# Altium schematic symbol library WCAP-AT1H.SchLib: 96 symbols (part 2 of 2)
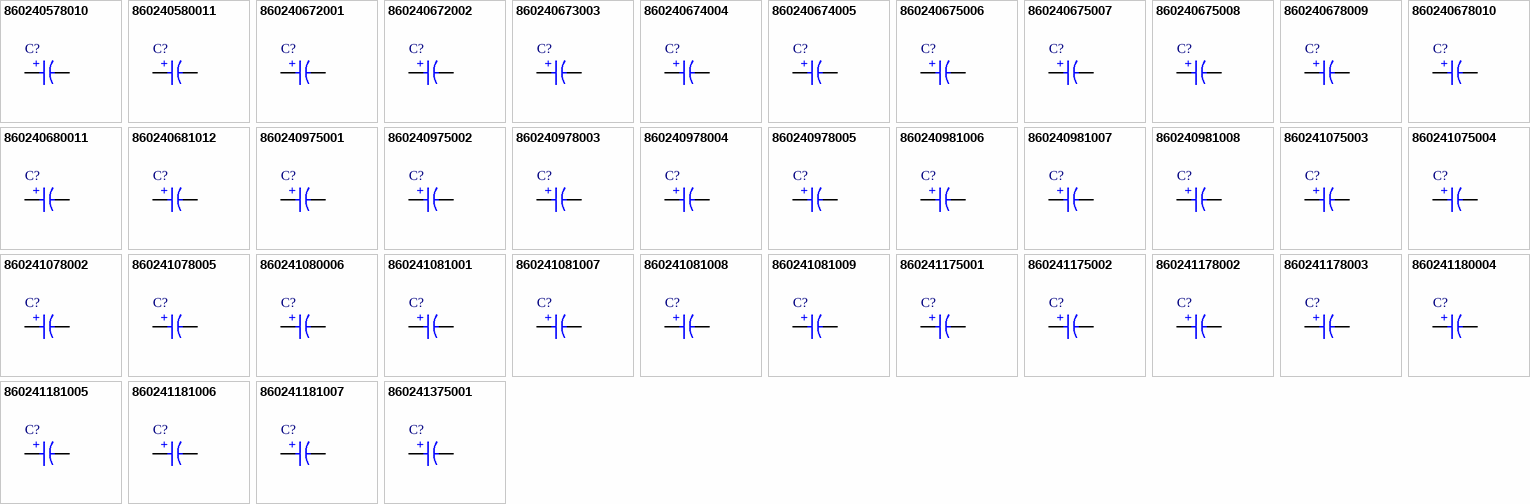
[diagram p3: symbols 860240578010 to 860241375001]

## 860240975001
designator C?, comment 10µF  (value not drawn)
WCAP-AT1H Aluminum Electrolytic Capacitor, Radial, D10 x H16mm, 10µF, 160V (DC); Manufacturer Part Number: 860240975001; Manufacturer: Wurth Elektronik; Leakage Current: 164µA; Dissipation Factor: 15%; Endurance: 10000h; Ripple Current: 280mA; Category: Aluminum Electrolytic Capacitors; Match Code: WCAP-AT1H; ComponentLink1Description: Website Link; ComponentLink1URL: https://www.we-online.com/redexpert/article/860240975001?ad; ComponentLink2Description: Datasheet Link; ComponentLink2URL: https://www.we-online.com/redexpert/spec/860240975001?ad; Mount: Through Hole; Min Operating Temperature: -40°C; Max Operating Temperature: 105°C; Packaging: Ammo Pack; Case/Size Code: D10 x H16mm; Height: 16mm; Diameter: 10mm; Capacitance: 10µF; Rated Voltage: 160V (DC)
footprint WCAP-AT1H_D10H16
simulation model 860240975001_10uF
pins: 1 P, 2 N
text: +

## 860240975002
designator C?, comment 22µF  (value not drawn)
WCAP-AT1H Aluminum Electrolytic Capacitor, Radial, D10 x H20mm, 22µF, 160V (DC); Manufacturer Part Number: 860240975002; Manufacturer: Wurth Elektronik; Leakage Current: 240.8µA; Dissipation Factor: 15%; Endurance: 10000h; Ripple Current: 450mA; Category: Aluminum Electrolytic Capacitors; Match Code: WCAP-AT1H; ComponentLink1Description: Website Link; ComponentLink1URL: https://www.we-online.com/redexpert/article/860240975002?ad; ComponentLink2Description: Datasheet Link; ComponentLink2URL: https://www.we-online.com/redexpert/spec/860240975002?ad; Mount: Through Hole; Min Operating Temperature: -40°C; Max Operating Temperature: 105°C; Packaging: Ammo Pack; Case/Size Code: D10 x H20mm; Height: 20mm; Diameter: 10mm; Capacitance: 22µF; Rated Voltage: 160V (DC)
footprint WCAP-AT1H_D10H20
simulation model 860240975002_22uF
pins: 1 P, 2 N
text: +

## 860240978003
designator C?, comment 33µF  (value not drawn)
WCAP-AT1H Aluminum Electrolytic Capacitor, Radial, D13 x H20mm, 33µF, 160V (DC); Manufacturer Part Number: 860240978003; Manufacturer: Wurth Elektronik; Leakage Current: 311.2µA; Dissipation Factor: 15%; Endurance: 10000h; Ripple Current: 610mA; Category: Aluminum Electrolytic Capacitors; Match Code: WCAP-AT1H; ComponentLink1Description: Website Link; ComponentLink1URL: https://www.we-online.com/redexpert/article/860240978003?ad; ComponentLink2Description: Datasheet Link; ComponentLink2URL: https://www.we-online.com/redexpert/spec/860240978003?ad; Mount: Through Hole; Min Operating Temperature: -40°C; Max Operating Temperature: 105°C; Packaging: Ammo Pack; Case/Size Code: D13 x H20mm; Height: 20mm; Diameter: 13mm; Capacitance: 33µF; Rated Voltage: 160V (DC)
footprint WCAP-AT1H_D13H20
simulation model 860240978003_33uF
pins: 1 P, 2 N
text: +

## 860240978004
designator C?, comment 47µF  (value not drawn)
WCAP-AT1H Aluminum Electrolytic Capacitor, Radial, D13 x H20mm, 47µF, 160V (DC); Manufacturer Part Number: 860240978004; Manufacturer: Wurth Elektronik; Leakage Current: 400.8µA; Dissipation Factor: 15%; Endurance: 10000h; Ripple Current: 680mA; Category: Aluminum Electrolytic Capacitors; Match Code: WCAP-AT1H; ComponentLink1Description: Website Link; ComponentLink1URL: https://www.we-online.com/redexpert/article/860240978004?ad; ComponentLink2Description: Datasheet Link; ComponentLink2URL: https://www.we-online.com/redexpert/spec/860240978004?ad; Mount: Through Hole; Min Operating Temperature: -40°C; Max Operating Temperature: 105°C; Packaging: Ammo Pack; Case/Size Code: D13 x H20mm; Height: 20mm; Diameter: 13mm; Capacitance: 47µF; Rated Voltage: 160V (DC)
footprint WCAP-AT1H_D13H20
simulation model 860240978004_47uF
pins: 1 P, 2 N
text: +

## 860240978005
designator C?, comment 68µF  (value not drawn)
WCAP-AT1H Aluminum Electrolytic Capacitor, Radial, D13 x H25mm, 68µF, 160V (DC); Manufacturer Part Number: 860240978005; Manufacturer: Wurth Elektronik; Leakage Current: 535.2µA; Dissipation Factor: 15%; Endurance: 10000h; Ripple Current: 1100mA; Category: Aluminum Electrolytic Capacitors; Match Code: WCAP-AT1H; ComponentLink1Description: Website Link; ComponentLink1URL: https://www.we-online.com/redexpert/article/860240978005?ad; ComponentLink2Description: Datasheet Link; ComponentLink2URL: https://www.we-online.com/redexpert/spec/860240978005?ad; Mount: Through Hole; Min Operating Temperature: -40°C; Max Operating Temperature: 105°C; Packaging: Ammo Pack; Case/Size Code: D13 x H25mm; Height: 25mm; Diameter: 13mm; Capacitance: 68µF; Rated Voltage: 160V (DC)
footprint WCAP-AT1H_D13H25
simulation model 860240978005_68uF
pins: 1 P, 2 N
text: +

## 860240981006
designator C?, comment 100µF  (value not drawn)
WCAP-AT1H Aluminum Electrolytic Capacitor, Radial, D18 x H21mm, 100µF, 160V (DC); Manufacturer Part Number: 860240981006; Manufacturer: Wurth Elektronik; Leakage Current: 740µA; Dissipation Factor: 15%; Endurance: 10000h; Ripple Current: 1310mA; Category: Aluminum Electrolytic Capacitors; Match Code: WCAP-AT1H; ComponentLink1Description: Website Link; ComponentLink1URL: https://www.we-online.com/redexpert/article/860240981006?ad; ComponentLink2Description: Datasheet Link; ComponentLink2URL: https://www.we-online.com/redexpert/spec/860240981006?ad; Mount: Through Hole; Min Operating Temperature: -40°C; Max Operating Temperature: 105°C; Packaging: Ammo Pack; Case/Size Code: D18 x H21mm; Height: 21mm; Diameter: 18mm; Capacitance: 100µF; Rated Voltage: 160V (DC)
footprint WCAP-AT1H_D18H21
simulation model 860240981006_100uF
pins: 1 P, 2 N
text: +

## 860240981007
designator C?, comment 150µF  (value not drawn)
WCAP-AT1H Aluminum Electrolytic Capacitor, Radial, D18 x H25mm, 150µF, 160V (DC); Manufacturer Part Number: 860240981007; Manufacturer: Wurth Elektronik; Leakage Current: 1060µA; Dissipation Factor: 15%; Endurance: 10000h; Ripple Current: 1780mA; Category: Aluminum Electrolytic Capacitors; Match Code: WCAP-AT1H; ComponentLink1Description: Website Link; ComponentLink1URL: https://www.we-online.com/redexpert/article/860240981007?ad; ComponentLink2Description: Datasheet Link; ComponentLink2URL: https://www.we-online.com/redexpert/spec/860240981007?ad; Mount: Through Hole; Min Operating Temperature: -40°C; Max Operating Temperature: 105°C; Packaging: Ammo Pack; Case/Size Code: D18 x H25mm; Height: 25mm; Diameter: 18mm; Capacitance: 150µF; Rated Voltage: 160V (DC)
footprint WCAP-AT1H_D18H25
simulation model 860240981007_150uF
pins: 1 P, 2 N
text: +

## 860240981008
designator C?, comment 220µF  (value not drawn)
WCAP-AT1H Aluminum Electrolytic Capacitor, Radial, D18 x H25mm, 220µF, 160V (DC); Manufacturer Part Number: 860240981008; Manufacturer: Wurth Elektronik; Leakage Current: 1508µA; Dissipation Factor: 15%; Endurance: 10000h; Ripple Current: 2290mA; Category: Aluminum Electrolytic Capacitors; Match Code: WCAP-AT1H; ComponentLink1Description: Website Link; ComponentLink1URL: https://www.we-online.com/redexpert/article/860240981008?ad; ComponentLink2Description: Datasheet Link; ComponentLink2URL: https://www.we-online.com/redexpert/spec/860240981008?ad; Mount: Through Hole; Min Operating Temperature: -40°C; Max Operating Temperature: 105°C; Packaging: Ammo Pack; Case/Size Code: D18 x H25mm; Height: 25mm; Diameter: 18mm; Capacitance: 220µF; Rated Voltage: 160V (DC)
footprint WCAP-AT1H_D18H25
simulation model 860240981008_220uF
pins: 1 P, 2 N
text: +

## 860241075003
designator C?, comment 10µF  (value not drawn)
WCAP-AT1H Aluminum Electrolytic Capacitor, Radial, D10 x H20mm, 10µF, 200V (DC); Manufacturer Part Number: 860241075003; Manufacturer: Wurth Elektronik; Leakage Current: 180µA; Dissipation Factor: 15%; Endurance: 10000h; Ripple Current: 310mA; Category: Aluminum Electrolytic Capacitors; Match Code: WCAP-AT1H; ComponentLink1Description: Website Link; ComponentLink1URL: https://www.we-online.com/redexpert/article/860241075003?ad; ComponentLink2Description: Datasheet Link; ComponentLink2URL: https://www.we-online.com/redexpert/spec/860241075003?ad; Mount: Through Hole; Min Operating Temperature: -40°C; Max Operating Temperature: 105°C; Packaging: Ammo Pack; Case/Size Code: D10 x H20mm; Height: 20mm; Diameter: 10mm; Capacitance: 10µF; Rated Voltage: 200V (DC)
footprint WCAP-AT1H_D10H20
simulation model 860241075003_10uF
pins: 1 P, 2 N
text: +

## 860241075004
designator C?, comment 22µF  (value not drawn)
WCAP-AT1H Aluminum Electrolytic Capacitor, Radial, D10 x H20mm, 22µF, 200V (DC); Manufacturer Part Number: 860241075004; Manufacturer: Wurth Elektronik; Leakage Current: 276µA; Dissipation Factor: 15%; Endurance: 10000h; Ripple Current: 470mA; Category: Aluminum Electrolytic Capacitors; Match Code: WCAP-AT1H; ComponentLink1Description: Website Link; ComponentLink1URL: https://www.we-online.com/redexpert/article/860241075004?ad; ComponentLink2Description: Datasheet Link; ComponentLink2URL: https://www.we-online.com/redexpert/spec/860241075004?ad; Mount: Through Hole; Min Operating Temperature: -40°C; Max Operating Temperature: 105°C; Packaging: Ammo Pack; Case/Size Code: D10 x H20mm; Height: 20mm; Diameter: 10mm; Capacitance: 22µF; Rated Voltage: 200V (DC)
footprint WCAP-AT1H_D10H20
simulation model 860241075004_22uF
pins: 1 P, 2 N
text: +

## 860241078002
designator C?, comment 47µF  (value not drawn)
WCAP-AT1H Aluminum Electrolytic Capacitor, Radial, D13 x H20mm, 47µF, 200V (DC); Manufacturer Part Number: 860241078002; Manufacturer: Wurth Elektronik; Leakage Current: 476µA; Dissipation Factor: 15%; Endurance: 10000h; Ripple Current: 980mA; Category: Aluminum Electrolytic Capacitors; Match Code: WCAP-AT1H; ComponentLink1Description: Website Link; ComponentLink1URL: https://www.we-online.com/redexpert/article/860241078002?ad; ComponentLink2Description: Datasheet Link; ComponentLink2URL: https://www.we-online.com/redexpert/spec/860241078002?ad; Mount: Through Hole; Min Operating Temperature: -40°C; Max Operating Temperature: 105°C; Packaging: Ammo Pack; Case/Size Code: D13 x H20mm; Height: 20mm; Diameter: 13mm; Capacitance: 47µF; Rated Voltage: 200V (DC)
footprint WCAP-AT1H_D13H20
simulation model 860241078002_47uF
pins: 1 P, 2 N
text: +

## 860241078005
designator C?, comment 33µF  (value not drawn)
WCAP-AT1H Aluminum Electrolytic Capacitor, Radial, D13 x H20mm, 33µF, 200V (DC); Manufacturer Part Number: 860241078005; Manufacturer: Wurth Elektronik; Leakage Current: 364µA; Dissipation Factor: 15%; Endurance: 10000h; Ripple Current: 620mA; Category: Aluminum Electrolytic Capacitors; Match Code: WCAP-AT1H; ComponentLink1Description: Website Link; ComponentLink1URL: https://www.we-online.com/redexpert/article/860241078005?ad; ComponentLink2Description: Datasheet Link; ComponentLink2URL: https://www.we-online.com/redexpert/spec/860241078005?ad; Mount: Through Hole; Min Operating Temperature: -40°C; Max Operating Temperature: 105°C; Packaging: Ammo Pack; Case/Size Code: D13 x H20mm; Height: 20mm; Diameter: 13mm; Capacitance: 33µF; Rated Voltage: 200V (DC)
footprint WCAP-AT1H_D13H20
simulation model 860241078005_33uF
pins: 1 P, 2 N
text: +

## 860241080006
designator C?, comment 68µF  (value not drawn)
WCAP-AT1H Aluminum Electrolytic Capacitor, Radial, D16 x H25mm, 68µF, 200V (DC); Manufacturer Part Number: 860241080006; Manufacturer: Wurth Elektronik; Leakage Current: 644µA; Dissipation Factor: 15%; Endurance: 10000h; Ripple Current: 1190mA; Category: Aluminum Electrolytic Capacitors; Match Code: WCAP-AT1H; ComponentLink1Description: Website Link; ComponentLink1URL: https://www.we-online.com/redexpert/article/860241080006?ad; ComponentLink2Description: Datasheet Link; ComponentLink2URL: https://www.we-online.com/redexpert/spec/860241080006?ad; Mount: Through Hole; Min Operating Temperature: -40°C; Max Operating Temperature: 105°C; Packaging: Ammo Pack; Case/Size Code: D16 x H25mm; Height: 25mm; Diameter: 16mm; Capacitance: 68µF; Rated Voltage: 200V (DC)
footprint WCAP-AT1H_D16H25
simulation model 860241080006_68uF
pins: 1 P, 2 N
text: +

## 860241081001
designator C?, comment 330µF  (value not drawn)
WCAP-AT1H Aluminum Electrolytic Capacitor, Radial, D18 x H35.5mm, 330µF, 200V (DC); Manufacturer Part Number: 860241081001; Manufacturer: Wurth Elektronik; Leakage Current: 2740µA; Dissipation Factor: 15%; Endurance: 10000h; Ripple Current: 3220mA; Category: Aluminum Electrolytic Capacitors; Match Code: WCAP-AT1H; ComponentLink1Description: Website Link; ComponentLink1URL: https://www.we-online.com/redexpert/article/860241081001?ad; ComponentLink2Description: Datasheet Link; ComponentLink2URL: https://www.we-online.com/redexpert/spec/860241081001?ad; Mount: Through Hole; Min Operating Temperature: -40°C; Max Operating Temperature: 105°C; Packaging: Ammo Pack; Case/Size Code: D18 x H35.5mm; Height: 35.5mm; Diameter: 18mm; Capacitance: 330µF; Rated Voltage: 200V (DC)
footprint WCAP-AT1H_D18H35.5
simulation model 860241081001_330uF
pins: 1 P, 2 N
text: +

## 860241081007
designator C?, comment 100µF  (value not drawn)
WCAP-AT1H Aluminum Electrolytic Capacitor, Radial, D18 x H21mm, 100µF, 200V (DC); Manufacturer Part Number: 860241081007; Manufacturer: Wurth Elektronik; Leakage Current: 900µA; Dissipation Factor: 15%; Endurance: 10000h; Ripple Current: 1380mA; Category: Aluminum Electrolytic Capacitors; Match Code: WCAP-AT1H; ComponentLink1Description: Website Link; ComponentLink1URL: https://www.we-online.com/redexpert/article/860241081007?ad; ComponentLink2Description: Datasheet Link; ComponentLink2URL: https://www.we-online.com/redexpert/spec/860241081007?ad; Mount: Through Hole; Min Operating Temperature: -40°C; Max Operating Temperature: 105°C; Packaging: Ammo Pack; Case/Size Code: D18 x H21mm; Height: 21mm; Diameter: 18mm; Capacitance: 100µF; Rated Voltage: 200V (DC)
footprint WCAP-AT1H_D18H21
simulation model 860241081007_100uF
pins: 1 P, 2 N
text: +

## 860241081008
designator C?, comment 150µF  (value not drawn)
WCAP-AT1H Aluminum Electrolytic Capacitor, Radial, D18 x H25mm, 150µF, 200V (DC); Manufacturer Part Number: 860241081008; Manufacturer: Wurth Elektronik; Leakage Current: 1300µA; Dissipation Factor: 15%; Endurance: 10000h; Ripple Current: 1800mA; Category: Aluminum Electrolytic Capacitors; Match Code: WCAP-AT1H; ComponentLink1Description: Website Link; ComponentLink1URL: https://www.we-online.com/redexpert/article/860241081008?ad; ComponentLink2Description: Datasheet Link; ComponentLink2URL: https://www.we-online.com/redexpert/spec/860241081008?ad; Mount: Through Hole; Min Operating Temperature: -40°C; Max Operating Temperature: 105°C; Packaging: Ammo Pack; Case/Size Code: D18 x H25mm; Height: 25mm; Diameter: 18mm; Capacitance: 150µF; Rated Voltage: 200V (DC)
footprint WCAP-AT1H_D18H25
simulation model 860241081008_150uF
pins: 1 P, 2 N
text: +

## 860241081009
designator C?, comment 220µF  (value not drawn)
WCAP-AT1H Aluminum Electrolytic Capacitor, Radial, D18 x H31.5mm, 220µF, 200V (DC); Manufacturer Part Number: 860241081009; Manufacturer: Wurth Elektronik; Leakage Current: 1860µA; Dissipation Factor: 15%; Endurance: 10000h; Ripple Current: 2350mA; Category: Aluminum Electrolytic Capacitors; Match Code: WCAP-AT1H; ComponentLink1Description: Website Link; ComponentLink1URL: https://www.we-online.com/redexpert/article/860241081009?ad; ComponentLink2Description: Datasheet Link; ComponentLink2URL: https://www.we-online.com/redexpert/spec/860241081009?ad; Mount: Through Hole; Min Operating Temperature: -40°C; Max Operating Temperature: 105°C; Packaging: Ammo Pack; Case/Size Code: D18 x H31.5mm; Height: 31.5mm; Diameter: 18mm; Capacitance: 220µF; Rated Voltage: 200V (DC)
footprint WCAP-AT1H_D18H31.5
simulation model 860241081009_220uF
pins: 1 P, 2 N
text: +

## 860241175001
designator C?, comment 10µF  (value not drawn)
WCAP-AT1H Aluminum Electrolytic Capacitor, Radial, D10 x H20mm, 10µF, 250V (DC); Manufacturer Part Number: 860241175001; Manufacturer: Wurth Elektronik; Leakage Current: 200µA; Dissipation Factor: 15%; Endurance: 10000h; Ripple Current: 320mA; Category: Aluminum Electrolytic Capacitors; Match Code: WCAP-AT1H; ComponentLink1Description: Website Link; ComponentLink1URL: https://www.we-online.com/redexpert/article/860241175001?ad; ComponentLink2Description: Datasheet Link; ComponentLink2URL: https://www.we-online.com/redexpert/spec/860241175001?ad; Mount: Through Hole; Min Operating Temperature: -40°C; Max Operating Temperature: 105°C; Packaging: Ammo Pack; Case/Size Code: D10 x H20mm; Height: 20mm; Diameter: 10mm; Capacitance: 10µF; Rated Voltage: 250V (DC)
footprint WCAP-AT1H_D10H20
simulation model 860241175001_10uF
pins: 1 P, 2 N
text: +

## 860241175002
designator C?, comment 22µF  (value not drawn)
WCAP-AT1H Aluminum Electrolytic Capacitor, Radial, D10 x H20mm, 22µF, 250V (DC); Manufacturer Part Number: 860241175002; Manufacturer: Wurth Elektronik; Leakage Current: 320µA; Dissipation Factor: 15%; Endurance: 10000h; Ripple Current: 420mA; Category: Aluminum Electrolytic Capacitors; Match Code: WCAP-AT1H; ComponentLink1Description: Website Link; ComponentLink1URL: https://www.we-online.com/redexpert/article/860241175002?ad; ComponentLink2Description: Datasheet Link; ComponentLink2URL: https://www.we-online.com/redexpert/spec/860241175002?ad; Mount: Through Hole; Min Operating Temperature: -40°C; Max Operating Temperature: 105°C; Packaging: Ammo Pack; Case/Size Code: D10 x H20mm; Height: 20mm; Diameter: 10mm; Capacitance: 22µF; Rated Voltage: 250V (DC)
footprint WCAP-AT1H_D10H20
simulation model 860241175002_22uF
pins: 1 P, 2 N
text: +

## 860241178002
designator C?, comment 22µF  (value not drawn)
WCAP-AT1H Aluminum Electrolytic Capacitor, Radial, D13 x H20mm, 22µF, 250V (DC); Manufacturer Part Number: 860241178002; Manufacturer: Wurth Elektronik; Leakage Current: 320µA; Dissipation Factor: 15%; Endurance: 10000h; Ripple Current: 490mA; Category: Aluminum Electrolytic Capacitors; Match Code: WCAP-AT1H; ComponentLink1Description: Website Link; ComponentLink1URL: https://www.we-online.com/redexpert/article/860241178002?ad; ComponentLink2Description: Datasheet Link; ComponentLink2URL: https://www.we-online.com/redexpert/spec/860241178002?ad; Mount: Through Hole; Min Operating Temperature: -40°C; Max Operating Temperature: 105°C; Packaging: Ammo Pack; Case/Size Code: D13 x H20mm; Height: 20mm; Diameter: 13mm; Capacitance: 22µF; Rated Voltage: 250V (DC)
footprint WCAP-AT1H_D13H20
simulation model 860241178002_22uF
pins: 1 P, 2 N
text: +

## 860241178003
designator C?, comment 33µF  (value not drawn)
WCAP-AT1H Aluminum Electrolytic Capacitor, Radial, D13 x H25mm, 33µF, 250V (DC); Manufacturer Part Number: 860241178003; Manufacturer: Wurth Elektronik; Leakage Current: 430µA; Dissipation Factor: 15%; Endurance: 10000h; Ripple Current: 750mA; Category: Aluminum Electrolytic Capacitors; Match Code: WCAP-AT1H; ComponentLink1Description: Website Link; ComponentLink1URL: https://www.we-online.com/redexpert/article/860241178003?ad; ComponentLink2Description: Datasheet Link; ComponentLink2URL: https://www.we-online.com/redexpert/spec/860241178003?ad; Mount: Through Hole; Min Operating Temperature: -40°C; Max Operating Temperature: 105°C; Packaging: Ammo Pack; Case/Size Code: D13 x H25mm; Height: 25mm; Diameter: 13mm; Capacitance: 33µF; Rated Voltage: 250V (DC)
footprint WCAP-AT1H_D13H25
simulation model 860241178003_33uF
pins: 1 P, 2 N
text: +

## 860241180004
designator C?, comment 47µF  (value not drawn)
WCAP-AT1H Aluminum Electrolytic Capacitor, Radial, D16 x H21mm, 47µF, 250V (DC); Manufacturer Part Number: 860241180004; Manufacturer: Wurth Elektronik; Leakage Current: 570µA; Dissipation Factor: 15%; Endurance: 10000h; Ripple Current: 930mA; Category: Aluminum Electrolytic Capacitors; Match Code: WCAP-AT1H; ComponentLink1Description: Website Link; ComponentLink1URL: https://www.we-online.com/redexpert/article/860241180004?ad; ComponentLink2Description: Datasheet Link; ComponentLink2URL: https://www.we-online.com/redexpert/spec/860241180004?ad; Mount: Through Hole; Min Operating Temperature: -40°C; Max Operating Temperature: 105°C; Packaging: Ammo Pack; Case/Size Code: D16 x H21mm; Height: 21mm; Diameter: 16mm; Capacitance: 47µF; Rated Voltage: 250V (DC)
footprint WCAP-AT1H_D16H21
simulation model 860241180004_47uF
pins: 1 P, 2 N
text: +

## 860241181005
designator C?, comment 68µF  (value not drawn)
WCAP-AT1H Aluminum Electrolytic Capacitor, Radial, D18 x H21mm, 68µF, 250V (DC); Manufacturer Part Number: 860241181005; Manufacturer: Wurth Elektronik; Leakage Current: 780µA; Dissipation Factor: 15%; Endurance: 10000h; Ripple Current: 1300mA; Category: Aluminum Electrolytic Capacitors; Match Code: WCAP-AT1H; ComponentLink1Description: Website Link; ComponentLink1URL: https://www.we-online.com/redexpert/article/860241181005?ad; ComponentLink2Description: Datasheet Link; ComponentLink2URL: https://www.we-online.com/redexpert/spec/860241181005?ad; Mount: Through Hole; Min Operating Temperature: -40°C; Max Operating Temperature: 105°C; Packaging: Ammo Pack; Case/Size Code: D18 x H21mm; Height: 21mm; Diameter: 18mm; Capacitance: 68µF; Rated Voltage: 250V (DC)
footprint WCAP-AT1H_D18H21
simulation model 860241181005_68uF
pins: 1 P, 2 N
text: +

## 860241181006
designator C?, comment 100µF  (value not drawn)
WCAP-AT1H Aluminum Electrolytic Capacitor, Radial, D18 x H25mm, 100µF, 250V (DC); Manufacturer Part Number: 860241181006; Manufacturer: Wurth Elektronik; Leakage Current: 1100µA; Dissipation Factor: 15%; Endurance: 10000h; Ripple Current: 1500mA; Category: Aluminum Electrolytic Capacitors; Match Code: WCAP-AT1H; ComponentLink1Description: Website Link; ComponentLink1URL: https://www.we-online.com/redexpert/article/860241181006?ad; ComponentLink2Description: Datasheet Link; ComponentLink2URL: https://www.we-online.com/redexpert/spec/860241181006?ad; Mount: Through Hole; Min Operating Temperature: -40°C; Max Operating Temperature: 105°C; Packaging: Ammo Pack; Case/Size Code: D18 x H25mm; Height: 25mm; Diameter: 18mm; Capacitance: 100µF; Rated Voltage: 250V (DC)
footprint WCAP-AT1H_D18H25
simulation model 860241181006_100uF
pins: 1 P, 2 N
text: +

## 860241181007
designator C?, comment 150µF  (value not drawn)
WCAP-AT1H Aluminum Electrolytic Capacitor, Radial, D18 x H31.5mm, 150µF, 250V (DC); Manufacturer Part Number: 860241181007; Manufacturer: Wurth Elektronik; Leakage Current: 1600µA; Dissipation Factor: 15%; Endurance: 10000h; Ripple Current: 1870mA; Category: Aluminum Electrolytic Capacitors; Match Code: WCAP-AT1H; ComponentLink1Description: Website Link; ComponentLink1URL: https://www.we-online.com/redexpert/article/860241181007?ad; ComponentLink2Description: Datasheet Link; ComponentLink2URL: https://www.we-online.com/redexpert/spec/860241181007?ad; Mount: Through Hole; Min Operating Temperature: -40°C; Max Operating Temperature: 105°C; Packaging: Ammo Pack; Case/Size Code: D18 x H31.5mm; Height: 31.5mm; Diameter: 18mm; Capacitance: 150µF; Rated Voltage: 250V (DC)
footprint WCAP-AT1H_D18H31.5
simulation model 860241181007_150uF
pins: 1 P, 2 N
text: +

## 860241375001
designator C?, comment 6.8µF  (value not drawn)
WCAP-AT1H Aluminum Electrolytic Capacitor, Radial, D10 x H12.5mm, 6.8µF, 400V (DC); Manufacturer Part Number: 860241375001; Manufacturer: Wurth Elektronik; Leakage Current: 208.8µA; Dissipation Factor: 20%; Endurance: 10000h; Ripple Current: 220mA; Category: Aluminum Electrolytic Capacitors; Match Code: WCAP-AT1H; ComponentLink1Description: Website Link; ComponentLink1URL: https://www.we-online.com/redexpert/article/860241375001?ad; ComponentLink2Description: Datasheet Link; ComponentLink2URL: https://www.we-online.com/redexpert/spec/860241375001?ad; Mount: Through Hole; Min Operating Temperature: -40°C; Max Operating Temperature: 105°C; Packaging: Ammo Pack; Case/Size Code: D10 x H12.5mm; Height: 12.5mm; Diameter: 10mm; Capacitance: 6.8µF; Rated Voltage: 400V (DC)
footprint WCAP-AT1H_D10H12.5
simulation model 860241375001_6.8uF
pins: 1 P, 2 N
text: +

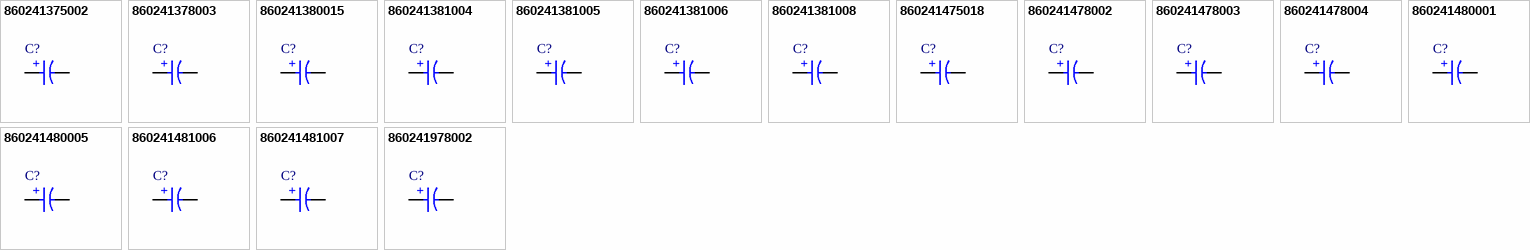
[diagram p2: symbols 860241375002 to 860241978002]

## 860241375002
designator C?, comment 10µF  (value not drawn)
WCAP-AT1H Aluminum Electrolytic Capacitor, Radial, D10 x H16mm, 10µF, 400V (DC); Manufacturer Part Number: 860241375002; Manufacturer: Wurth Elektronik; Leakage Current: 260µA; Dissipation Factor: 20%; Endurance: 10000h; Ripple Current: 274mA; Category: Aluminum Electrolytic Capacitors; Match Code: WCAP-AT1H; ComponentLink1Description: Website Link; ComponentLink1URL: https://www.we-online.com/redexpert/article/860241375002?ad; ComponentLink2Description: Datasheet Link; ComponentLink2URL: https://www.we-online.com/redexpert/spec/860241375002?ad; Mount: Through Hole; Min Operating Temperature: -40°C; Max Operating Temperature: 105°C; Packaging: Ammo Pack; Case/Size Code: D10 x H16mm; Height: 16mm; Diameter: 10mm; Capacitance: 10µF; Rated Voltage: 400V (DC)
footprint WCAP-AT1H_D10H16
simulation model 860241375002_10uF
pins: 1 P, 2 N
text: +

## 860241378003
designator C?, comment 22µF  (value not drawn)
WCAP-AT1H Aluminum Electrolytic Capacitor, Radial, D13 x H20mm, 22µF, 400V (DC); Manufacturer Part Number: 860241378003; Manufacturer: Wurth Elektronik; Leakage Current: 452µA; Dissipation Factor: 20%; Endurance: 10000h; Ripple Current: 557mA; Category: Aluminum Electrolytic Capacitors; Match Code: WCAP-AT1H; ComponentLink1Description: Website Link; ComponentLink1URL: https://www.we-online.com/redexpert/article/860241378003?ad; ComponentLink2Description: Datasheet Link; ComponentLink2URL: https://www.we-online.com/redexpert/spec/860241378003?ad; Mount: Through Hole; Min Operating Temperature: -40°C; Max Operating Temperature: 105°C; Packaging: Ammo Pack; Case/Size Code: D13 x H20mm; Height: 20mm; Diameter: 13mm; Capacitance: 22µF; Rated Voltage: 400V (DC)
footprint WCAP-AT1H_D13H20
simulation model 860241378003_22uF
pins: 1 P, 2 N
text: +

## 860241380015
designator C?, comment 47µF  (value not drawn)
WCAP-AT1H Aluminum Electrolytic Capacitor, Radial, D16 x H25mm, 47µF, 400V (DC); Manufacturer Part Number: 860241380015; Manufacturer: Wurth Elektronik; Leakage Current: 852µA; Dissipation Factor: 20%; Endurance: 10000h; Ripple Current: 1200mA; Category: Aluminum Electrolytic Capacitors; Match Code: WCAP-AT1H; ComponentLink1Description: Website Link; ComponentLink1URL: https://www.we-online.com/redexpert/article/860241380015?ad; ComponentLink2Description: Datasheet Link; ComponentLink2URL: https://www.we-online.com/redexpert/spec/860241380015?ad; Mount: Through Hole; Min Operating Temperature: -40°C; Max Operating Temperature: 105°C; Packaging: Ammo Pack; Case/Size Code: D16 x H25mm; Height: 25mm; Diameter: 16mm; Capacitance: 47µF; Rated Voltage: 400V (DC)
footprint WCAP-AT1H_D16H25
simulation model 860241380015_47uF
pins: 1 P, 2 N
text: +

## 860241381004
designator C?, comment 33µF  (value not drawn)
WCAP-AT1H Aluminum Electrolytic Capacitor, Radial, D18 x H21mm, 33µF, 400V (DC); Manufacturer Part Number: 860241381004; Manufacturer: Wurth Elektronik; Leakage Current: 628µA; Dissipation Factor: 20%; Endurance: 10000h; Ripple Current: 870mA; Category: Aluminum Electrolytic Capacitors; Match Code: WCAP-AT1H; ComponentLink1Description: Website Link; ComponentLink1URL: https://www.we-online.com/redexpert/article/860241381004?ad; ComponentLink2Description: Datasheet Link; ComponentLink2URL: https://www.we-online.com/redexpert/spec/860241381004?ad; Mount: Through Hole; Min Operating Temperature: -40°C; Max Operating Temperature: 105°C; Packaging: Ammo Pack; Case/Size Code: D18 x H21mm; Height: 21mm; Diameter: 18mm; Capacitance: 33µF; Rated Voltage: 400V (DC)
footprint WCAP-AT1H_D18H21
simulation model 860241381004_33uF
pins: 1 P, 2 N
text: +

## 860241381005
designator C?, comment 47µF  (value not drawn)
WCAP-AT1H Aluminum Electrolytic Capacitor, Radial, D18 x H21mm, 47µF, 400V (DC); Manufacturer Part Number: 860241381005; Manufacturer: Wurth Elektronik; Leakage Current: 852µA; Dissipation Factor: 20%; Endurance: 10000h; Ripple Current: 1050mA; Category: Aluminum Electrolytic Capacitors; Match Code: WCAP-AT1H; ComponentLink1Description: Website Link; ComponentLink1URL: https://www.we-online.com/redexpert/article/860241381005?ad; ComponentLink2Description: Datasheet Link; ComponentLink2URL: https://www.we-online.com/redexpert/spec/860241381005?ad; Mount: Through Hole; Min Operating Temperature: -40°C; Max Operating Temperature: 105°C; Packaging: Ammo Pack; Case/Size Code: D18 x H21mm; Height: 21mm; Diameter: 18mm; Capacitance: 47µF; Rated Voltage: 400V (DC)
footprint WCAP-AT1H_D18H21
simulation model 860241381005_47uF
pins: 1 P, 2 N
text: +

## 860241381006
designator C?, comment 68µF  (value not drawn)
WCAP-AT1H Aluminum Electrolytic Capacitor, Radial, D18 x H31.5mm, 68µF, 400V (DC); Manufacturer Part Number: 860241381006; Manufacturer: Wurth Elektronik; Leakage Current: 1188µA; Dissipation Factor: 20%; Endurance: 10000h; Ripple Current: 1460mA; Category: Aluminum Electrolytic Capacitors; Match Code: WCAP-AT1H; ComponentLink1Description: Website Link; ComponentLink1URL: https://www.we-online.com/redexpert/article/860241381006?ad; ComponentLink2Description: Datasheet Link; ComponentLink2URL: https://www.we-online.com/redexpert/spec/860241381006?ad; Mount: Through Hole; Min Operating Temperature: -40°C; Max Operating Temperature: 105°C; Packaging: Ammo Pack; Case/Size Code: D18 x H31.5mm; Height: 31.5mm; Diameter: 18mm; Capacitance: 68µF; Rated Voltage: 400V (DC)
footprint WCAP-AT1H_D18H31.5
simulation model 860241381006_68uF
pins: 1 P, 2 N
text: +

## 860241381008
designator C?, comment 82µF  (value not drawn)
WCAP-AT1H Aluminum Electrolytic Capacitor, Radial, D18 x H25mm, 82µF, 400V (DC); Manufacturer Part Number: 860241381008; Manufacturer: Wurth Elektronik; Leakage Current: 1412µA; Dissipation Factor: 20%; Endurance: 10000h; Ripple Current: 1530mA; Category: Aluminum Electrolytic Capacitors; Match Code: WCAP-AT1H; ComponentLink1Description: Website Link; ComponentLink1URL: https://www.we-online.com/redexpert/article/860241381008?ad; ComponentLink2Description: Datasheet Link; ComponentLink2URL: https://www.we-online.com/redexpert/spec/860241381008?ad; Mount: Through Hole; Min Operating Temperature: -40°C; Max Operating Temperature: 105°C; Packaging: Ammo Pack; Case/Size Code: D18 x H25mm; Height: 25mm; Diameter: 18mm; Capacitance: 82µF; Rated Voltage: 400V (DC)
footprint WCAP-AT1H_D18H25
simulation model 860241381008_82uF
pins: 1 P, 2 N
text: +

## 860241475018
designator C?, comment 4.7µF  (value not drawn)
WCAP-AT1H Aluminum Electrolytic Capacitor, Radial, D10 x H16mm, 4.7µF, 450V (DC); Manufacturer Part Number: 860241475018; Manufacturer: Wurth Elektronik; Leakage Current: 185µA; Dissipation Factor: 20%; Endurance: 8000h; Ripple Current: 110mA; Category: Aluminum Electrolytic Capacitors; Match Code: WCAP-AT1H; ComponentLink1Description: Website Link; ComponentLink1URL: https://www.we-online.com/redexpert/article/860241475018?ad; ComponentLink2Description: Datasheet Link; ComponentLink2URL: https://www.we-online.com/redexpert/spec/860241475018?ad; Mount: Through Hole; Min Operating Temperature: -40°C; Max Operating Temperature: 105°C; Packaging: Ammo Pack; Case/Size Code: D10 x H16mm; Height: 16mm; Diameter: 10mm; Capacitance: 4.7µF; Rated Voltage: 450V (DC)
footprint WCAP-AT1H_D10H16
simulation model 860241475018_4.7uF
pins: 1 P, 2 N
text: +

## 860241478002
designator C?, comment 6.8µF  (value not drawn)
WCAP-AT1H Aluminum Electrolytic Capacitor, Radial, D13 x H20mm, 6.8µF, 450V (DC); Manufacturer Part Number: 860241478002; Manufacturer: Wurth Elektronik; Leakage Current: 222.4µA; Dissipation Factor: 20%; Endurance: 10000h; Ripple Current: 240mA; Category: Aluminum Electrolytic Capacitors; Match Code: WCAP-AT1H; ComponentLink1Description: Website Link; ComponentLink1URL: https://www.we-online.com/redexpert/article/860241478002?ad; ComponentLink2Description: Datasheet Link; ComponentLink2URL: https://www.we-online.com/redexpert/spec/860241478002?ad; Mount: Through Hole; Min Operating Temperature: -25°C; Max Operating Temperature: 105°C; Packaging: Ammo Pack; Case/Size Code: D13 x H20mm; Height: 20mm; Diameter: 13mm; Capacitance: 6.8µF; Rated Voltage: 450V (DC)
footprint WCAP-AT1H_D13H20
simulation model 860241478002_6.8uF
pins: 1 P, 2 N
text: +

## 860241478003
designator C?, comment 10µF  (value not drawn)
WCAP-AT1H Aluminum Electrolytic Capacitor, Radial, D13 x H20mm, 10µF, 450V (DC); Manufacturer Part Number: 860241478003; Manufacturer: Wurth Elektronik; Leakage Current: 280µA; Dissipation Factor: 20%; Endurance: 10000h; Ripple Current: 390mA; Category: Aluminum Electrolytic Capacitors; Match Code: WCAP-AT1H; ComponentLink1Description: Website Link; ComponentLink1URL: https://www.we-online.com/redexpert/article/860241478003?ad; ComponentLink2Description: Datasheet Link; ComponentLink2URL: https://www.we-online.com/redexpert/spec/860241478003?ad; Mount: Through Hole; Min Operating Temperature: -25°C; Max Operating Temperature: 105°C; Packaging: Ammo Pack; Case/Size Code: D13 x H20mm; Height: 20mm; Diameter: 13mm; Capacitance: 10µF; Rated Voltage: 450V (DC)
footprint WCAP-AT1H_D13H20
simulation model 860241478003_10uF
pins: 1 P, 2 N
text: +

## 860241478004
designator C?, comment 22µF  (value not drawn)
WCAP-AT1H Aluminum Electrolytic Capacitor, Radial, D13 x H25mm, 22µF, 450V (DC); Manufacturer Part Number: 860241478004; Manufacturer: Wurth Elektronik; Leakage Current: 496µA; Dissipation Factor: 20%; Endurance: 10000h; Ripple Current: 632mA; Category: Aluminum Electrolytic Capacitors; Match Code: WCAP-AT1H; ComponentLink1Description: Website Link; ComponentLink1URL: https://www.we-online.com/redexpert/article/860241478004?ad; ComponentLink2Description: Datasheet Link; ComponentLink2URL: https://www.we-online.com/redexpert/spec/860241478004?ad; Mount: Through Hole; Min Operating Temperature: -25°C; Max Operating Temperature: 105°C; Packaging: Ammo Pack; Case/Size Code: D13 x H25mm; Height: 25mm; Diameter: 13mm; Capacitance: 22µF; Rated Voltage: 450V (DC)
footprint WCAP-AT1H_D13H25
simulation model 860241478004_22uF
pins: 1 P, 2 N
text: +

## 860241480001
designator C?, comment 100µF  (value not drawn)
WCAP-AT1H Aluminum Electrolytic Capacitor, Radial, D16 x H35.5mm, 100µF, 450V (DC); Manufacturer Part Number: 860241480001; Manufacturer: Wurth Elektronik; Leakage Current: 1900µA; Dissipation Factor: 17%; Endurance: 5000h; Ripple Current: 610mA; Category: Aluminum Electrolytic Capacitors; Match Code: WCAP-AT1H; ComponentLink1Description: Website Link; ComponentLink1URL: https://www.we-online.com/redexpert/article/860241480001?ad; ComponentLink2Description: Datasheet Link; ComponentLink2URL: https://www.we-online.com/redexpert/spec/860241480001?ad; Mount: Through Hole; Min Operating Temperature: -25°C; Max Operating Temperature: 105°C; Packaging: Ammo Pack; Case/Size Code: D16 x H35.5mm; Height: 35.5mm; Diameter: 16mm; Capacitance: 100µF; Rated Voltage: 450V (DC)
footprint WCAP-AT1H_D16H35.5
simulation model 860241480001_100uF
pins: 1 P, 2 N
text: +

## 860241480005
designator C?, comment 22µF  (value not drawn)
WCAP-AT1H Aluminum Electrolytic Capacitor, Radial, D16 x H21mm, 22µF, 450V (DC); Manufacturer Part Number: 860241480005; Manufacturer: Wurth Elektronik; Leakage Current: 496µA; Dissipation Factor: 20%; Endurance: 10000h; Ripple Current: 685mA; Category: Aluminum Electrolytic Capacitors; Match Code: WCAP-AT1H; ComponentLink1Description: Website Link; ComponentLink1URL: https://www.we-online.com/redexpert/article/860241480005?ad; ComponentLink2Description: Datasheet Link; ComponentLink2URL: https://www.we-online.com/redexpert/spec/860241480005?ad; Mount: Through Hole; Min Operating Temperature: -25°C; Max Operating Temperature: 105°C; Packaging: Ammo Pack; Case/Size Code: D16 x H21mm; Height: 21mm; Diameter: 16mm; Capacitance: 22µF; Rated Voltage: 450V (DC)
footprint WCAP-AT1H_D16H21
simulation model 860241480005_22uF
pins: 1 P, 2 N
text: +

## 860241481006
designator C?, comment 33µF  (value not drawn)
WCAP-AT1H Aluminum Electrolytic Capacitor, Radial, D18 x H21mm, 33µF, 450V (DC); Manufacturer Part Number: 860241481006; Manufacturer: Wurth Elektronik; Leakage Current: 694µA; Dissipation Factor: 20%; Endurance: 10000h; Ripple Current: 883mA; Category: Aluminum Electrolytic Capacitors; Match Code: WCAP-AT1H; ComponentLink1Description: Website Link; ComponentLink1URL: https://www.we-online.com/redexpert/article/860241481006?ad; ComponentLink2Description: Datasheet Link; ComponentLink2URL: https://www.we-online.com/redexpert/spec/860241481006?ad; Mount: Through Hole; Min Operating Temperature: -25°C; Max Operating Temperature: 105°C; Packaging: Ammo Pack; Case/Size Code: D18 x H21mm; Height: 21mm; Diameter: 18mm; Capacitance: 33µF; Rated Voltage: 450V (DC)
footprint WCAP-AT1H_D18H21
simulation model 860241481006_33uF
pins: 1 P, 2 N
text: +

## 860241481007
designator C?, comment 47µF  (value not drawn)
WCAP-AT1H Aluminum Electrolytic Capacitor, Radial, D18 x H31.5mm, 47µF, 450V (DC); Manufacturer Part Number: 860241481007; Manufacturer: Wurth Elektronik; Leakage Current: 946µA; Dissipation Factor: 20%; Endurance: 10000h; Ripple Current: 1120mA; Category: Aluminum Electrolytic Capacitors; Match Code: WCAP-AT1H; ComponentLink1Description: Website Link; ComponentLink1URL: https://www.we-online.com/redexpert/article/860241481007?ad; ComponentLink2Description: Datasheet Link; ComponentLink2URL: https://www.we-online.com/redexpert/spec/860241481007?ad; Mount: Through Hole; Min Operating Temperature: -25°C; Max Operating Temperature: 105°C; Packaging: Ammo Pack; Case/Size Code: D18 x H31.5mm; Height: 31.5mm; Diameter: 18mm; Capacitance: 47µF; Rated Voltage: 450V (DC)
footprint WCAP-AT1H_D18H31.5
simulation model 860241481007_47uF
pins: 1 P, 2 N
text: +

## 860241978002
designator C?, comment 100µF  (value not drawn)
WCAP-AT1H Aluminum Electrolytic Capacitor, Radial, D13 x H50mm, 100µF, 420V (DC); Manufacturer Part Number: 860241978002; Manufacturer: Wurth Elektronik; Leakage Current: 615µA; Dissipation Factor: 20%; Endurance: 5000h; Ripple Current: 600mA; Category: Aluminum Electrolytic Capacitors; Match Code: WCAP-AT1H; ComponentLink1Description: Website Link; ComponentLink1URL: https://www.we-online.com/redexpert/article/860241978002?ad; ComponentLink2Description: Datasheet Link; ComponentLink2URL: https://www.we-online.com/redexpert/spec/860241978002?ad; Mount: Through Hole; Min Operating Temperature: -25°C; Max Operating Temperature: 105°C; Packaging: Tray; Case/Size Code: D13 x H50mm; Height: 50mm; Diameter: 13mm; Capacitance: 100µF; Rated Voltage: 420V (DC)
footprint WCAP-AT1H_D13H50
simulation model 860241978002_100uF
pins: 1 P, 2 N
text: +